# Altium footprint library Diodes.PcbLib: 1 footprints
Each footprint in its own frame and in the unit in brackets; x right, y up, seen from the top. Pads: shape width x height; smd on the part's side, far side on the other; paste and mask are expansions set on the pad; w line width, h text height; cw(c..) or ccw(c..) is an arc to the next point about the centre after c.
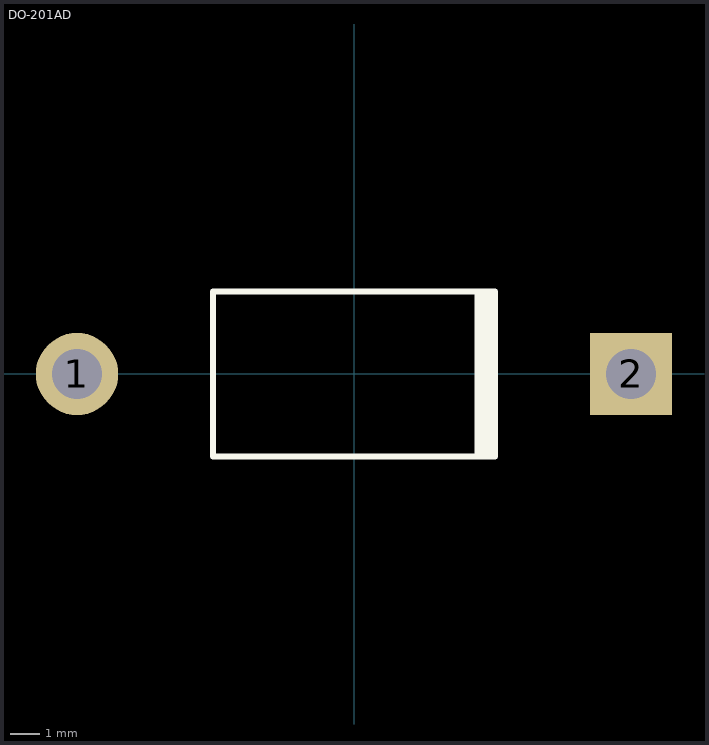
[diagram p0: the footprint, top view; thin cyan lines are the x and y axes]

## DO-201AD [mm]
pads (2):
  round 2.8 hole 1.7: 1(-9.42,0)
  rect 2.8x2.8 hole 1.7: 2(9.42,0)
Top Overlay:
  rectangle: 4.1,-2.8 4.9,2.8
  lines w0.2: 4.8,-2.8 -4.8,-2.8 -4.8,2.8 4.8,2.8
3D body "User Library-DO-201AD.STEP": height 7.6, standoff -4, extent -8.661,-2.915 7.899,2.661
3D body "User Library-DO-201AD 15_24mm.STEP": height 2.64, standoff -6.5, extent -8.177,4.064 7.923,9.364
3D body "User Library-DO-201ADDO-27.STEP": height 2.81, standoff -6.8, extent -10.019,10.134 10.121,15.774